# Altium schematic symbol library Cap_Panasonic_Electronic_Components_EEU-FC1V221L_eec.SchLib: 1 symbol
Pins are listed as number, name and electrical type; pins without a type are passive.

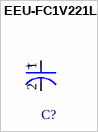
[diagram p0: symbol EEU-FC1V221L]

## EEU-FC1V221L
designator C?  (value not drawn)
pins: 1 C, 2 A
text: +